# EAGLE library part 80C166 (library micro-siemens)
MICROPROCESSOR/PERIPHERAL DEVICE
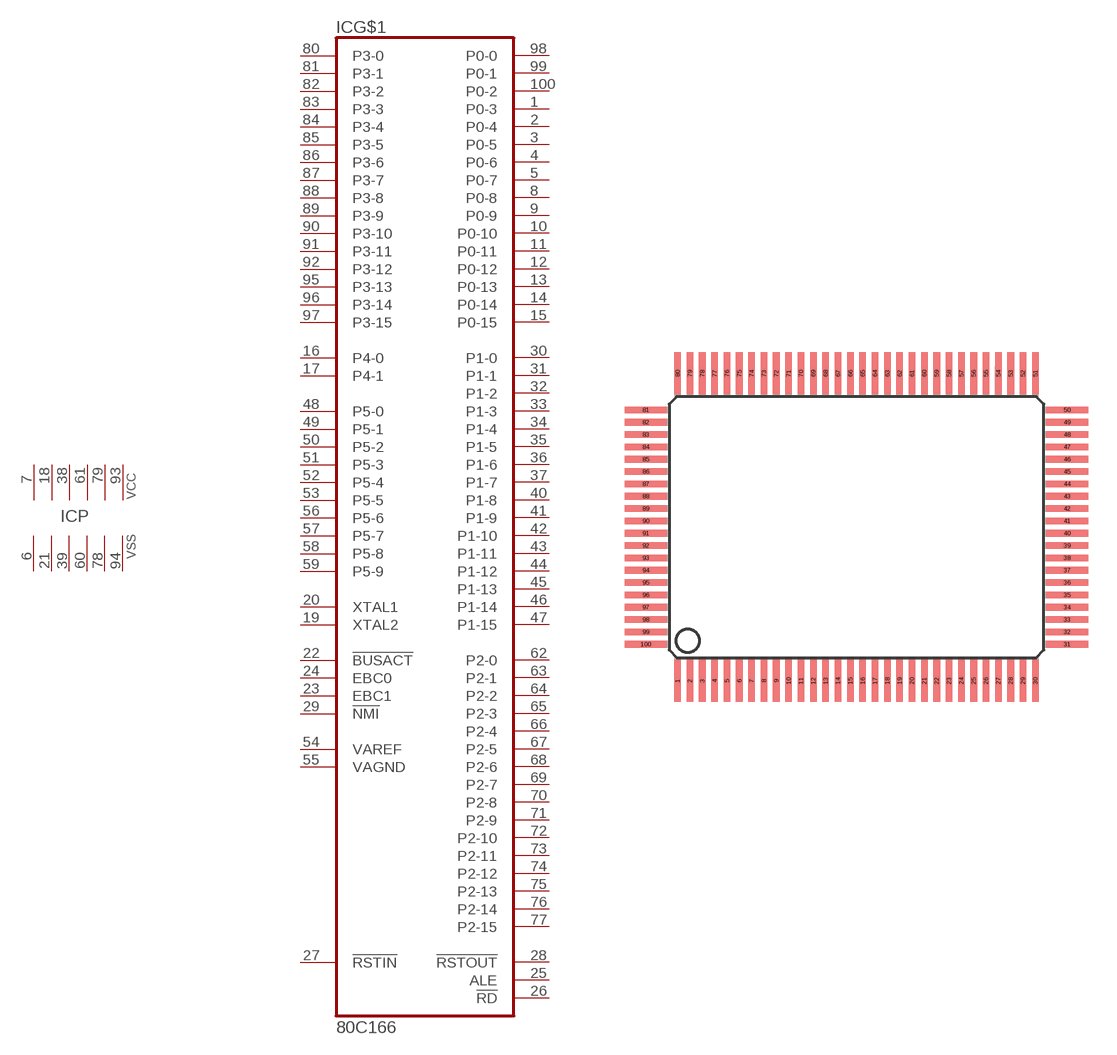
[diagram p59: symbol with the pads of MQFP100; footprint MQFP100]

Designator prefix IC; gates G$1=80C166 P=6_VCCVSS

## 80C166 (OC_FARNELL: unknown; OC_NEWARK: unknown)  [MQFP100]
1  G$1:P0-3
2  G$1:P0-4
3  G$1:P0-5
4  G$1:P0-6
5  G$1:P0-7
6  P:VSS  pwr
7  P:VCC  pwr
8  G$1:P0-8
9  G$1:P0-9
10  G$1:P0-10
11  G$1:P0-11
12  G$1:P0-12
13  G$1:P0-13
14  G$1:P0-14
15  G$1:P0-15
16  G$1:P4-0
17  G$1:P4-1
18  P:VCC  pwr
19  G$1:XTAL2  out
20  G$1:XTAL1  in
21  P:VSS  pwr
22  G$1:!BUSACT  in
23  G$1:EBC1  in
24  G$1:EBC0  in
25  G$1:ALE  out
26  G$1:!RD  out
27  G$1:!RSTIN  in
28  G$1:!RSTOUT  out
29  G$1:!NMI  in
30  G$1:P1-0
31  G$1:P1-1
32  G$1:P1-2
33  G$1:P1-3
34  G$1:P1-4
35  G$1:P1-5
36  G$1:P1-6
37  G$1:P1-7
38  P:VCC  pwr
39  P:VSS  pwr
40  G$1:P1-8
41  G$1:P1-9
42  G$1:P1-10
43  G$1:P1-11
44  G$1:P1-12
45  G$1:P1-13
46  G$1:P1-14
47  G$1:P1-15
48  G$1:P5-0  in
49  G$1:P5-1  in
50  G$1:P5-2  in
51  G$1:P5-3  in
52  G$1:P5-4  in
53  G$1:P5-5  in
54  G$1:VAREF  pas
55  G$1:VAGND  pas
56  G$1:P5-6  in
57  G$1:P5-7  in
58  G$1:P5-8  in
59  G$1:P5-9  in
60  P:VSS  pwr
61  P:VCC  pwr
62  G$1:P2-0
63  G$1:P2-1
64  G$1:P2-2
65  G$1:P2-3
66  G$1:P2-4
67  G$1:P2-5
68  G$1:P2-6
69  G$1:P2-7
70  G$1:P2-8
71  G$1:P2-9
72  G$1:P2-10
73  G$1:P2-11
74  G$1:P2-12
75  G$1:P2-13
76  G$1:P2-14
77  G$1:P2-15
78  P:VSS  pwr
79  P:VCC  pwr
80  G$1:P3-0
81  G$1:P3-1
82  G$1:P3-2
83  G$1:P3-3
84  G$1:P3-4
85  G$1:P3-5
86  G$1:P3-6
87  G$1:P3-7
88  G$1:P3-8
89  G$1:P3-9
90  G$1:P3-10
91  G$1:P3-11
92  G$1:P3-12
93  P:VCC  pwr
94  P:VSS  pwr
95  G$1:P3-13
96  G$1:P3-14
97  G$1:P3-15
98  G$1:P0-0
99  G$1:P0-1
100  G$1:P0-2

## Footprint MQFP100 (pad centres in mm)
Metric Quad Flat Pack
smd 0.35 x 2.2: 1 -9.425,-8.1; 2 -8.775,-8.1; 3 -8.125,-8.1; 4 -7.475,-8.1; 5 -6.825,-8.1; 6 -6.175,-8.1; 7 -5.525,-8.1; 8 -4.875,-8.1; 9 -4.225,-8.1; 10 -3.575,-8.1; 11 -2.925,-8.1; 12 -2.275,-8.1; 13 -1.625,-8.1; 14 -0.975,-8.1; 15 -0.325,-8.1; 16 0.325,-8.1; 17 0.975,-8.1; 18 1.625,-8.1; 19 2.275,-8.1; 20 2.925,-8.1; 21 3.575,-8.1; 22 4.225,-8.1; 23 4.875,-8.1; 24 5.525,-8.1; 25 6.175,-8.1; 26 6.825,-8.1; 27 7.475,-8.1; 28 8.125,-8.1; 29 8.775,-8.1; 30 9.425,-8.1; 51 9.425,8.1; 52 8.775,8.1; 53 8.125,8.1; 54 7.475,8.1; 55 6.825,8.1; 56 6.175,8.1; 57 5.525,8.1; 58 4.875,8.1; 59 4.225,8.1; 60 3.575,8.1; 61 2.925,8.1; 62 2.275,8.1; 63 1.625,8.1; 64 0.975,8.1; 65 0.325,8.1; 66 -0.325,8.1; 67 -0.975,8.1; 68 -1.625,8.1; 69 -2.275,8.1; 70 -2.925,8.1; 71 -3.575,8.1; 72 -4.225,8.1; 73 -4.875,8.1; 74 -5.525,8.1; 75 -6.175,8.1; 76 -6.825,8.1; 77 -7.475,8.1; 78 -8.125,8.1; 79 -8.775,8.1; 80 -9.425,8.1
smd 2.2 x 0.35: 31 11.1,-6.175; 32 11.1,-5.525; 33 11.1,-4.875; 34 11.1,-4.225; 35 11.1,-3.575; 36 11.1,-2.925; 37 11.1,-2.275; 38 11.1,-1.625; 39 11.1,-0.975; 40 11.1,-0.325; 41 11.1,0.325; 42 11.1,0.975; 43 11.1,1.625; 44 11.1,2.275; 45 11.1,2.925; 46 11.1,3.575; 47 11.1,4.225; 48 11.1,4.875; 49 11.1,5.525; 50 11.1,6.175; 81 -11.1,6.175; 82 -11.1,5.525; 83 -11.1,4.875; 84 -11.1,4.225; 85 -11.1,3.575; 86 -11.1,2.925; 87 -11.1,2.275; 88 -11.1,1.625; 89 -11.1,0.975; 90 -11.1,0.325; 91 -11.1,-0.325; 92 -11.1,-0.975; 93 -11.1,-1.625; 94 -11.1,-2.275; 95 -11.1,-2.925; 96 -11.1,-3.575; 97 -11.1,-4.225; 98 -11.1,-4.875; 99 -11.1,-5.525; 100 -11.1,-6.175